# Altium footprint library ES_Pcb.PcbLib: 383 footprints (part 21 of 24)
Each footprint in its own frame and in the unit in brackets; x right, y up, seen from the top. Pads: shape width x height; smd on the part's side, far side on the other; paste and mask are expansions set on the pad; w line width, h text height; cw(c..) or ccw(c..) is an arc to the next point about the centre after c.
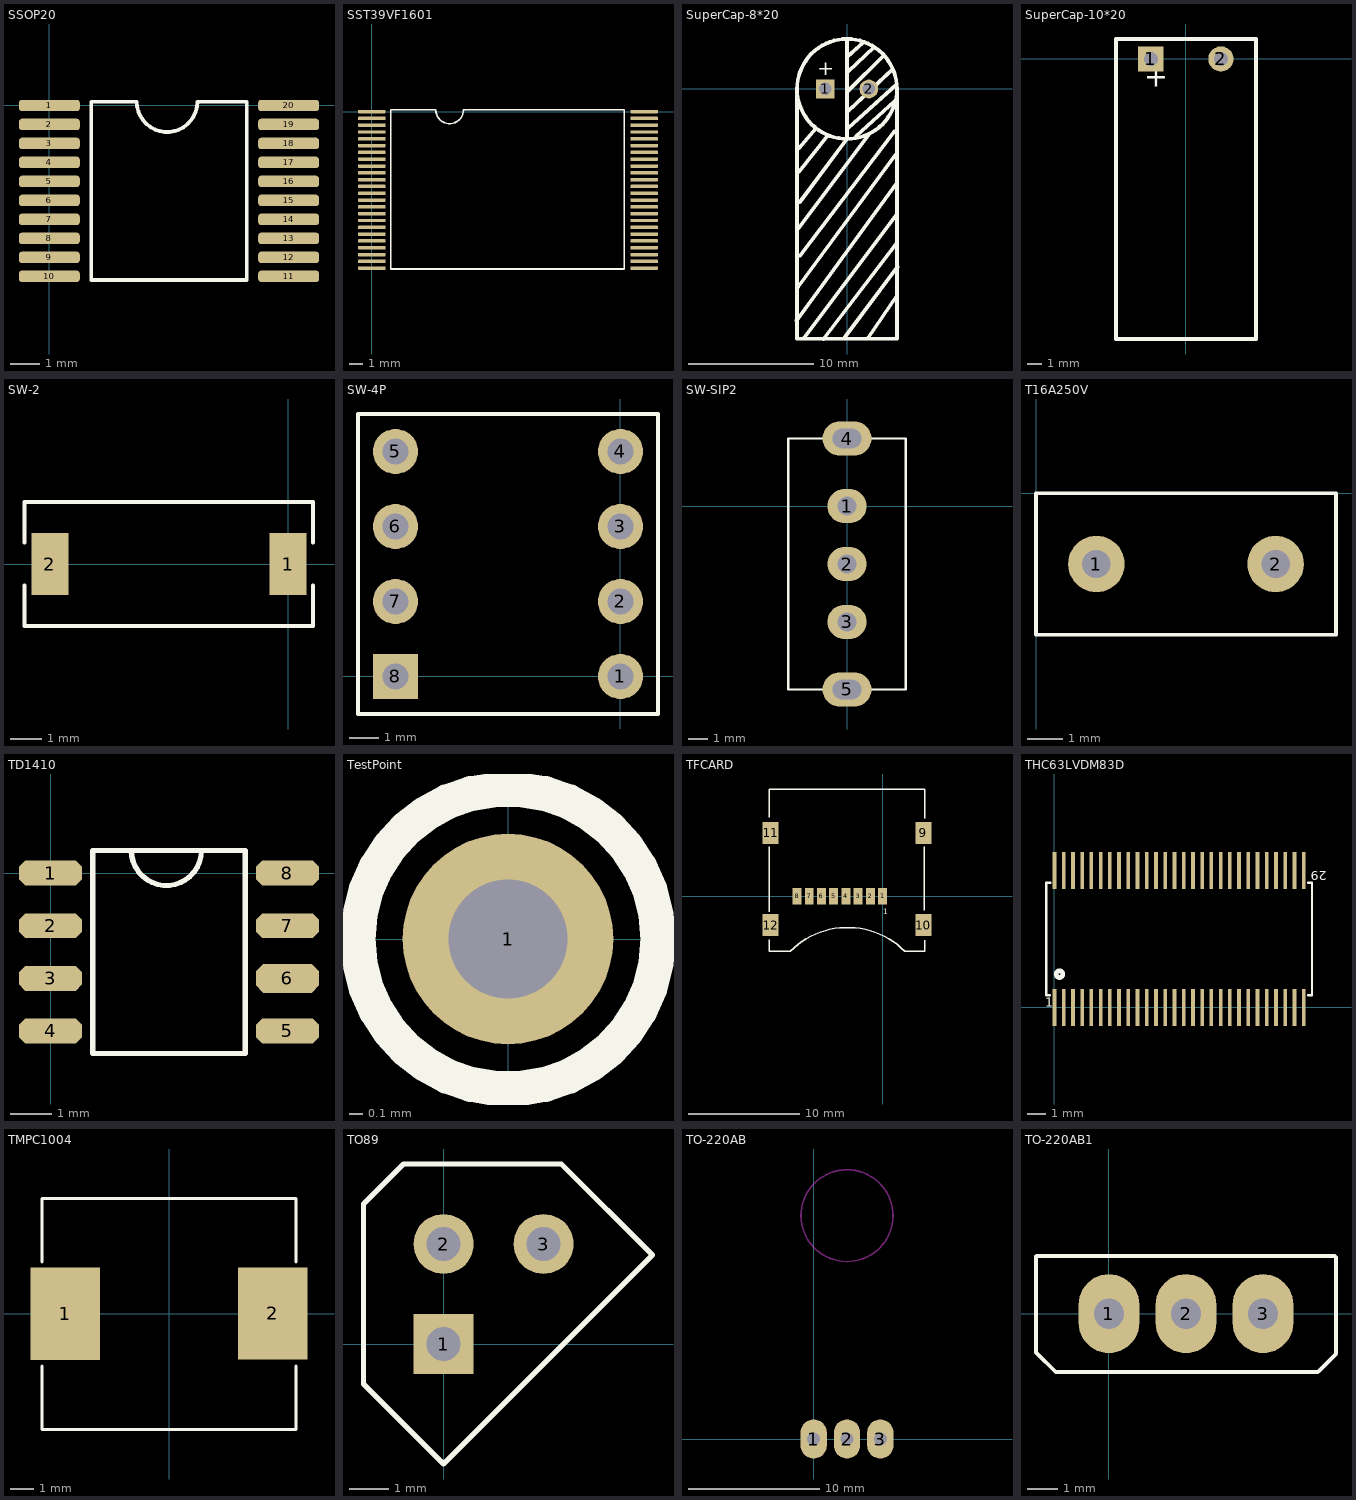
[diagram p20: the footprints below, top view; thin cyan lines are the x and y axes]

## SSOP20 [mil]
pads (20):
  rrect50% 80x15 smd: 1(0,0) 2(0,-25) 3(0,-50) 4(0,-75) 5(0,-100) 6(0,-125) 7(0,-150) 8(0,-175) 9(0,-200) 10(0,-225) 11(315,-225) 12(315,-200) 13(315,-175) 14(315,-150) 15(315,-125) 16(315,-100) 17(315,-75) 18(315,-50) 19(315,-25) 20(315,0)
Top Overlay:
  lines w5: 55,-230 260,-230 260,5 195,5 cw(c155,5) 115,5 55,5 55,-230

## SST39VF1601 [mil]
pads (48):
  rrect50% 80x10 smd: 1(0,0) 2(0,-19.68) 3(0,-39.37) 4(0,-59.06) 5(0,-78.74) 6(0,-98.43) 7(0,-118.11) 8(0,-137.8) 9(0,-157.48) 10(0,-177.17) 11(0,-196.85) 12(0,-216.54) 13(0,-236.22) 14(0,-255.91) 15(0,-275.59) 16(0,-295.28) 17(0,-314.96) 18(0,-334.65) 19(0,-354.33) 20(0,-374.02) 21(0,-393.7) 22(0,-413.39) 23(0,-433.07) 24(0,-452.76) 25(787.4,-452.76) 26(787.4,-433.07) 27(787.4,-413.39) 28(787.4,-393.7) 29(787.4,-374.02) 30(787.4,-354.33) 31(787.4,-334.65) 32(787.4,-314.96) 33(787.4,-295.28) 34(787.4,-275.59) 35(787.4,-255.91) 36(787.4,-236.22) 37(787.4,-216.54) 38(787.4,-196.85) 39(787.4,-177.17) 40(787.4,-157.48) 41(787.4,-137.8) 42(787.4,-118.11) 43(787.4,-98.43) 44(787.4,-78.74) 45(787.4,-59.06) 46(787.4,-39.37) 47(787.4,-19.68) 48(787.4,0)
Top Overlay:
  lines w5: 55,-455 730,-455 730,5 265,5 cw(c225,5) 185,5 55,5 55,-455

## SuperCap-8*20 [mm]
pads (2):
  rect 1.5x1.5 hole 1: 1(-1.75,0)
  round 1.5 hole 1: 2(1.75,0)
Top Overlay:
  circle w0.313: c0,0 r4
  lines w0.3: -4.039,-18.542 4,-7.518 ; -4,0 -4,-20 4,-20 4,0 ; -3.912,-15.85 4,-5.105 ; -3.886,-11.151 1.778,-3.607 ; -3.835,-6.629 -1.524,-3.708 ; -3.835,-4.75 -2.464,-3.15 ; -3.785,-9.068 0,-4 0,4 ; -3.759,-13.36 3.81,-3.378 ; -3.48,-20 3.912,-10.109 ; -1.88,-20.015 4,-12.294 ; -0.178,-19.863 4.039,-14.249 ; 0,2.565 1.295,3.734 ; 0.076,-0.152 2.946,2.667 ; 0.102,-3.124 3.962,0.356 ; 0.102,-1.778 2.438,0.432 3.658,1.6 ; 0.102,1.397 2.184,3.353 ; 0.737,-3.759 3.835,-0.965 ; 1.694,-19.914 1.676,-19.939 4,-16.535
  text "+" at -2.388,0.711 h2.03

## SuperCap-10*20 [mm]
pads (2):
  rect 1.8x1.8 hole 1: 1(-2.5,0)
  round 1.8 hole 1: 2(2.5,0)
Top Overlay:
  lines w0.3: -4.978,-20 5,-20 5,1.422 -4.978,1.422 -4.978,-19.949
  text "+" at -2.972,-2.489 h2.54

## SW-2 [mm]
pads (2):
  rect 1.2x2 smd: 1(0,0) 2(-7.7,0)
Top Overlay:
  lines w0.127: -8.525,-0.7 -8.525,-2 0.8,-2 0.8,-0.7 ; -8.525,0.7 -8.525,2 0.8,2 0.8,0.7

## SW-4P [mil]
pads (8):
  round 60 hole 35: 1(0,0) 2(0,100) 3(0,200) 4(0,300) 5(-300,300) 6(-300,200) 7(-300,100)
  rect 60x60 hole 35: 8(-300,0)
Top Overlay:
  lines w5: -350,-50 -350,350 50,350 50,-50 -350,-50

## SW-SIP2 [mil]
pads (5):
  oval 80x70 hole 39.37: 1(0,0) 2(0,-118.11) 3(0,-236.22)
  oval 100x70 hole 39.37 slot 59.06 at 0 deg: 4(0,137.8) 5(0,-374.02)
Top Overlay:
  lines w5: -120,-374.02 -120,137.8 120,137.8 120,-374.02 -120,-374.02

## T16A250V [mm]
pads (2):
  round 1.6 hole 0.8: 1(1.71,-2) 2(6.79,-2)
Top Overlay:
  lines w0.1: 0,-4 0,0 8.5,0 8.5,-4 0,-4

## TD1410 [mm]
pads (8):
  oct 1.524x0.6 smd: 1(0,0) 2(0,-1.27) 3(0,-2.54) 4(0,-3.81) 5(5.715,-3.81) 7(5.715,-1.27) 8(5.715,0)
  oct 1.524x0.7 smd: 6(5.715,-2.54)
Top Overlay:
  lines w0.127: 1.948,0.545 ccw(c2.794,0.545) 3.64,0.545 ; 1.016,-4.355 1.016,0.545 4.699,0.545 4.699,-4.355 1.016,-4.355

## TestPoint [mil]
pads (1):
  round 60 hole 34: 1(0,0)
Top Overlay:
  circle w10: c0,0 r42.73

## TFCARD [mm]
pads (12):
  rect 0.8x1.5 smd: 1(0,0) 2(-1.1,0) 3(-2.2,0) 4(-3.3,0) 5(-4.4,0) 6(-5.5,0) 7(-6.6,0) 8(-7.7,0)
  rect 1.45x2 smd: 9(3.675,5.7) 10(3.675,-2.6) 11(-10.075,5.7) 12(-10.075,-2.6)
Top Overlay:
  lines w0.127: -10.2,-3.934 -10.2,-4.95 -8.295,-4.95 cw(c-3.151,-10.094) 1.992,-4.95 3.8,-4.95 3.8,-3.964 ; -10.2,-1.394 -10.2,4.448 ; -10.2,7.115 -10.2,9.65 3.8,9.65 3.8,7.018 ; 3.77,-1.267 3.77,4.448
  text "1" at 0.087,-1.648 h0.5

## THC63LVDM83D [mm]
pads (56):
  rect 0.2x2 smd: 1(0,0) 2(0.5,0) 3(1,0) 4(1.5,0) 5(2,0) 6(2.5,0) 7(3,0) 8(3.5,0) 9(4,0) 10(4.5,0) 11(5,0) 12(5.5,0) 13(6,0) 14(6.5,0) 15(7,0) 16(7.5,0) 17(8,0) 18(8.5,0) 19(9,0) 20(9.5,0) 21(10,0) 22(10.5,0) 23(11,0) 24(11.5,0) 25(12,0) 26(12.5,0) 27(13,0) 28(13.5,0) 29(13.5,7.4) 30(13,7.4) 31(12.5,7.4) 32(12,7.4) 33(11.5,7.4) 34(11,7.4) 35(10.5,7.4) 36(10,7.4) 37(9.5,7.4) 38(9,7.4) 39(8.5,7.4) 40(8,7.4) 41(7.5,7.4) 42(7,7.4) 43(6.5,7.4) 44(6,7.4) 45(5.5,7.4) 46(5,7.4) 47(4.5,7.4) 48(4,7.4) 49(3.5,7.4) 50(3,7.4) 51(2.5,7.4) 52(2,7.4) 53(1.5,7.4) 54(1,7.4) 55(0.5,7.4) 56(0,7.4)
Top Overlay:
  circle w0.254: c0.273,1.795 r0.18
  lines w0.127: -0.256,0.65 -0.45,0.65 -0.45,6.75 -0.237,6.75 ; 13.733,0.65 13.95,0.65 13.95,6.75 13.737,6.75
  text "1" at -0.489,0.017 h0.5
  text "29" at 14.751,7.383 h0.5

## TMPC1004 [mm]
pads (2):
  rect 3x4 smd: 1(-4.5,0) 2(4.5,0.013)
Top Overlay:
  lines w0.127: -5.5,-2.261 -5.5,-5.013 5.5,-5.013 5.5,-2.261 ; -5.5,2.235 -5.5,4.987 5.5,4.987 5.5,2.235

## TO89 [mil]
pads (3):
  rect 60x60 hole 34: 1(0,0)
  round 60 hole 34: 2(0,100) 3(100,100)
Top Overlay:
  lines w5: -80,-40 0,-120 208.91,88.94 117.85,180 -40,180 -80,140 -80,-40

## TO-220AB [mm]
pads (3):
  oval 2x3 hole 1: 1(0,0) 2(2.54,0) 3(5.08,0)
Bottom Overlay:
  lines w0.127: -1.905,1.905 -1.905,1.27 -1.905,-1.27 -1.27,-1.905 6.35,-1.905 6.985,-1.27 6.985,1.905 ; -1.905,1.905 6.985,1.905 ; -1.905,1.905 -1.905,20.955 6.985,20.955 6.985,20.193 6.985,1.905
Keep-Out Layer:
  circle w0.127: c2.54,17.018 r3.5

## TO-220AB1 [mm]
pads (3):
  oval 2x2.6 hole 1: 1(0,0) 2(2.54,0) 3(5.08,0)
Top Overlay:
  lines w0.127: -2.405,-1.27 -2.405,1.27 ; -2.405,1.092 -2.405,1.88 ; -2.388,-1.295 -1.753,-1.93 6.883,-1.93 6.921,-1.892 7.468,-1.346 ; -2.38,1.905 -1.905,1.905 6.985,1.905 7.434,1.905 7.485,1.854 7.485,-1.321